# Altium footprint library MAX31850JATB+.PcbLib: 1 footprints
Each footprint in its own frame and in the unit in brackets; x right, y up, seen from the top. Pads: shape width x height; smd on the part's side, far side on the other; paste and mask are expansions set on the pad; w line width, h text height; cw(c..) or ccw(c..) is an arc to the next point about the centre after c.
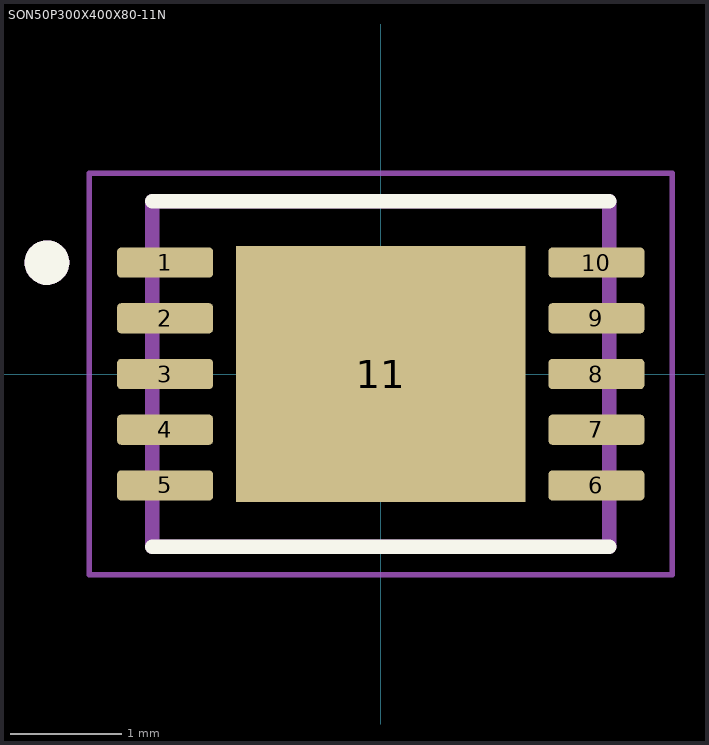
[diagram p0: the footprint, top view; thin cyan lines are the x and y axes]

## SON50P300X400X80-11N [mm]
pads (11):
  rrect25% 0.86x0.27 smd: 1(-1.935,1) 2(-1.935,0.5) 3(-1.935,0) 4(-1.935,-0.5) 5(-1.935,-1) 6(1.935,-1) 7(1.935,-0.5) 8(1.935,0) 9(1.935,0.5) 10(1.935,1)
  rect 2.6x2.3 smd paste-2: 11(0,0)
Top Overlay:
  circle w0.2: c-2.995,1 r0.1
  lines w0.127: -2.05,-1.55 2.05,-1.55 ; -2.05,1.55 2.05,1.55
Mechanical 13:
  circle w0.2: c-2.995,1 r0.1
  lines w0.127: -2.05,-1.55 -2.05,1.55 2.05,1.55 2.05,-1.55 -2.05,-1.55
Mechanical 15:
  lines w0.05: -2.615,-1.8 -2.615,1.8 2.615,1.8 2.615,-1.8 -2.615,-1.8